# EAGLE library part TLC2252CD (library Operationsverstärker - TLC2252)
Name des Bauteiles:TLC2252CD Daten:TTI: TLC 2252 CD, SO8 Artikelnummer:#045043 Datenblatt:www.datasheet.com
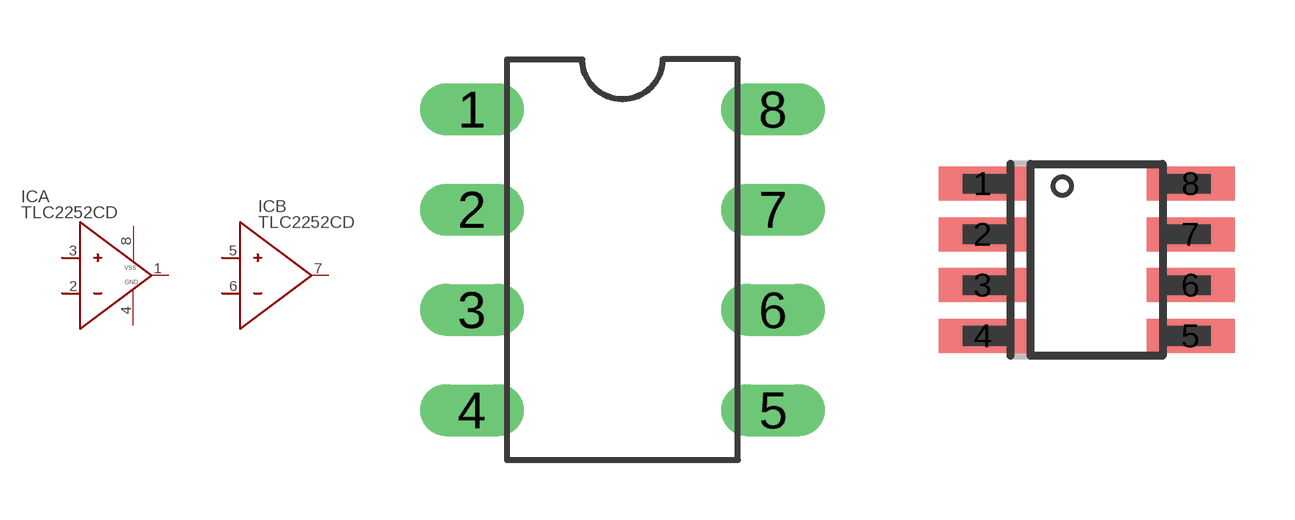
[diagram p0: symbol with the pads of DIL8; footprints DIL8, SO8]

Designator prefix IC; gates A=TLC2252A B=TLC2252B

## TLC2252CDTHT  [DIL8]
1  A:1
2  A:2
3  A:3
4  A:4
5  B:5
6  B:6
7  B:7
8  A:8

## TLC2252CDSMD  [SO8]
1  A:1
2  A:2
3  A:3
4  A:4
5  A:8
6  B:5
7  B:6
8  B:7

## Footprint DIL8 (pad centres in mm)
drill 0.813 long: 1 -3.81,3.81; 2 -3.81,1.27; 3 -3.81,-1.27; 4 -3.81,-3.81; 5 3.81,-3.81; 6 3.81,-1.27; 7 3.81,1.27; 8 3.81,3.81

## Footprint SO8 (pad centres in mm)
smd 2.2 x 0.854: 1 -2.6,1.905; 2 -2.6,0.635; 3 -2.6,-0.635; 4 -2.6,-1.905; 5 2.6,-1.905; 6 2.6,-0.635; 7 2.6,0.635; 8 2.6,1.905